# EAGLE library part DJ70610-3-10/21 (library automotive-Con)
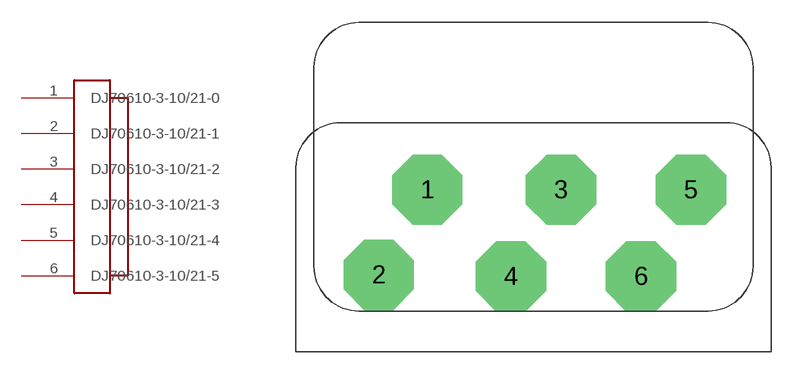
[diagram p2: symbol with the pads of DJ70610-3-10/21; footprint DJ70610-3-10/21]

Designator prefix -

## DJ70610-3-10/21  [DJ70610-3-10/21]
1  DJ70610-3-10/21-0
2  DJ70610-3-10/21-1
3  DJ70610-3-10/21-2
4  DJ70610-3-10/21-3
5  DJ70610-3-10/21-4
6  DJ70610-3-10/21-5

## Footprint DJ70610-3-10/21 (pad centres in mm)
drill 3.683 octagon: 1 -13.716,4.166; 2 -16.967,-1.524; 3 -4.775,4.166; 4 -8.128,-1.626; 5 3.912,4.166; 6 0.559,-1.626